# Altium schematic symbol library OPTOISOLATOR.SchLib: 1 symbol
Pins are listed as number, name and electrical type; pins without a type are passive.

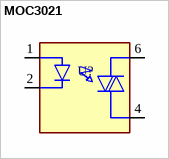
[diagram p0: symbol MOC3021]

## MOC3021
designator U?
pins: 1 ANODE, 2 CATODE, 4 MAIN_TERM2, 6 MAIN_TERM1